# Altium schematic symbol library ISL21080DIH312Z-TK.Schlib: 1 symbol
Pins are listed as number, name and electrical type; pins without a type are passive.

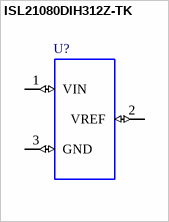
[diagram p0: symbol ISL21080DIH312Z-TK]

## ISL21080DIH312Z-TK
designator U?
Series Voltage Reference IC 0.9v±0.6% SOT-23-3
pins: 1 VIN (io), 2 VREF (io), 3 GND (io)